# Altium footprint library SWReg.PcbLib: 15 footprints
Each footprint in its own frame and in the unit in brackets; x right, y up, seen from the top. Pads: shape width x height; smd on the part's side, far side on the other; paste and mask are expansions set on the pad; w line width, h text height; cw(c..) or ccw(c..) is an arc to the next point about the centre after c.
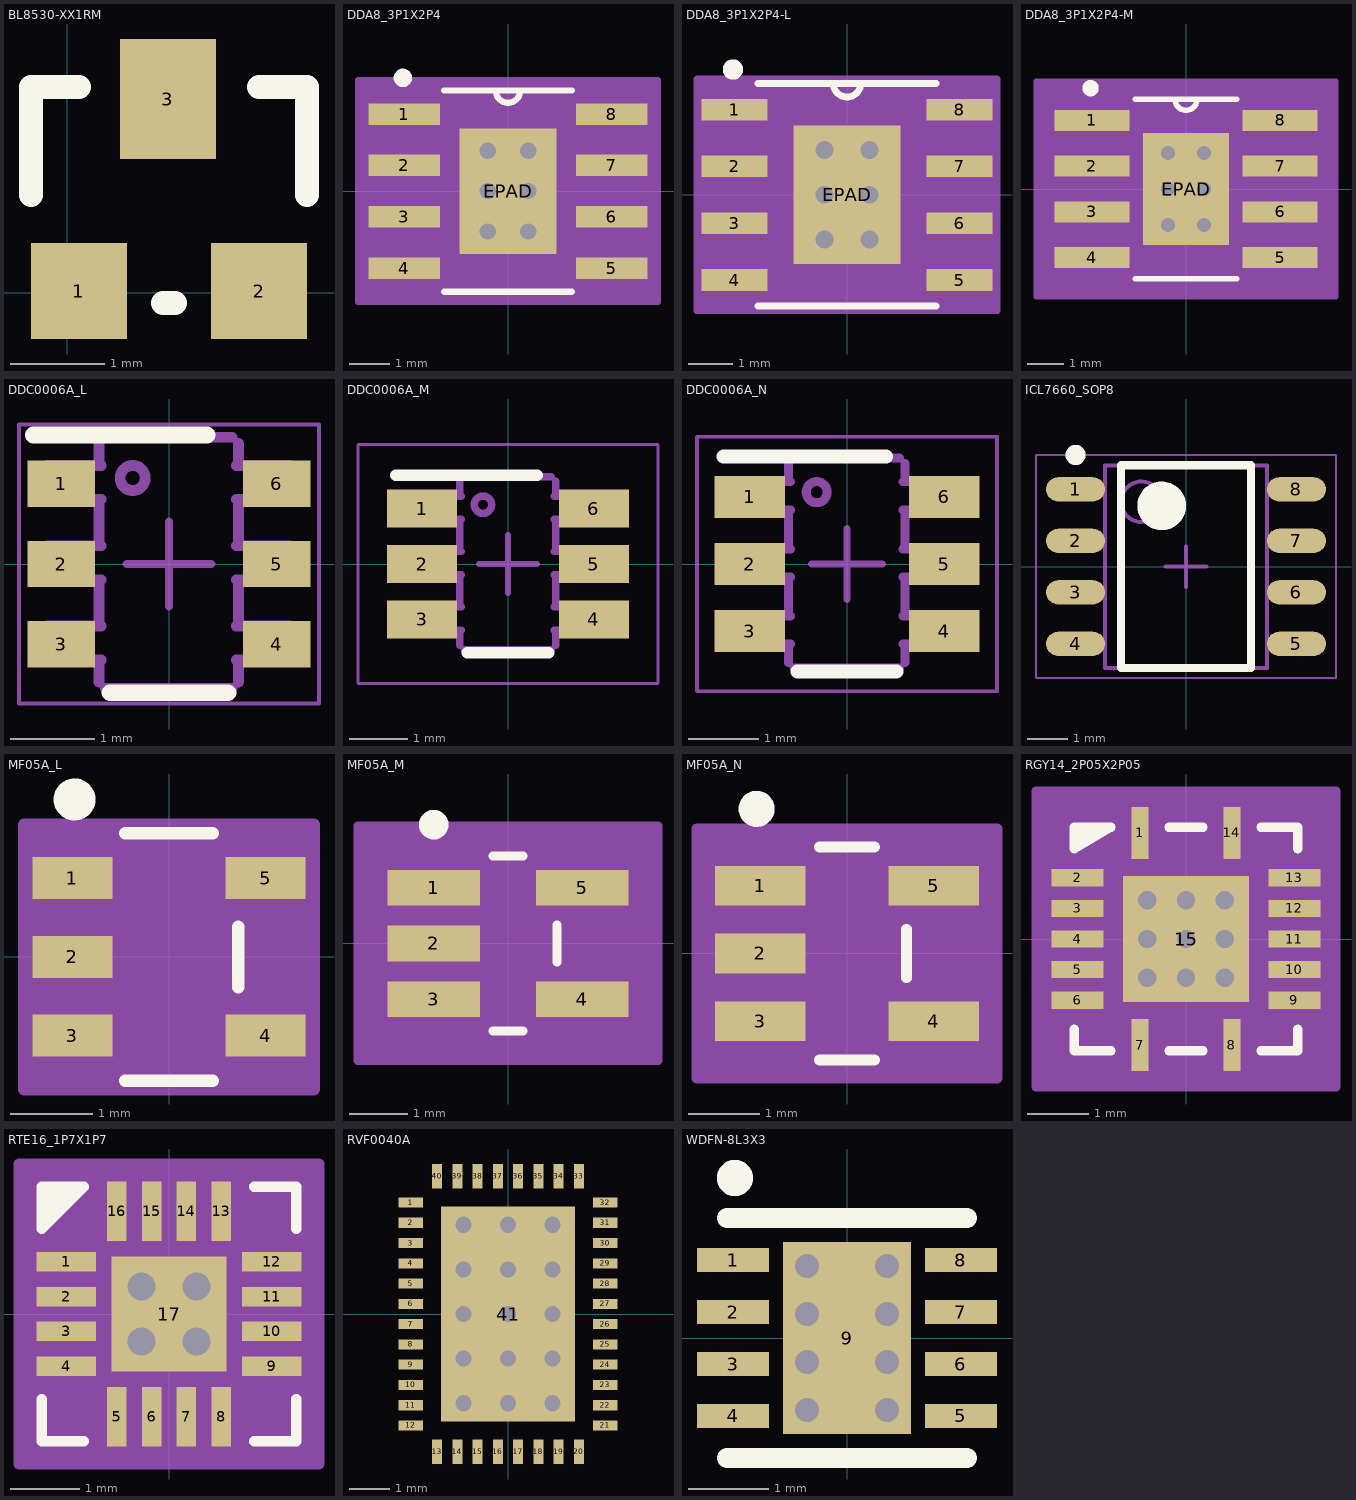
[diagram p0: the footprints below, top view; thin cyan lines are the x and y axes]

## BL8530-XX1RM [mil]
pads (3):
  rect 40x40 smd: 1(4.88,0.63) 2(79.88,0.63)
  rect 40x50 smd: 3(41.88,80.63)
Top Overlay:
  lines w10: -15.12,40.63 -15.12,85.63 4.88,85.63 ; 39.88,-4.37 44.88,-4.37 ; 79.88,85.63 99.88,85.63 99.88,40.63
3D body "SOT-23-3.STEP": height 47.24, standoff 0, extent -14.87,-11.02 99.3,99.22

## DDA8_3P1X2P4 [mil]
pads (9):
  rect 70x21 smd: 1(-101,75) 2(-101,25) 3(-101,-25) 4(-101,-75) 5(101,-75) 6(101,-25) 7(101,25) 8(101,75)
  rect 94.49x122.05 smd paste-60.52: EPAD(0,0)
via -19.68,0 diameter 31.5 hole 15.75
via -19.68,-39.37 diameter 31.5 hole 15.75
via 19.68,-39.37 diameter 31.5 hole 15.75
via 19.68,0 diameter 31.5 hole 15.75
via 19.68,39.37 diameter 31.5 hole 15.75
via -19.68,39.37 diameter 31.5 hole 15.75
Top Overlay:
  circle w10: c-102.36,110.24 r3.94
  lines w6: -62.08,-98 62.08,-98 ; -62.08,98 62.08,98 ; -12,98 ccw(c0,98) 12,98
Top Paste:
  region: 43.31,57.09 -43.31,57.09 -43.31,3.94 43.31,3.94
  region: 43.31,-3.94 -43.31,-3.94 -43.31,-57.09 43.31,-57.09
Mechanical 13:
  lines w0: -12,98 ccw(c0,98) 12,98
Mechanical 15:
  region: 146,-108 -146,-108 -146,108 146,108
  lines w6: -146,-108 -146,108 146,108 146,-108 -146,-108
3D body "DDA8_3P1X2P4.stp": height 66.1, standoff -2, extent -122,-98 122,98

## DDA8_3P1X2P4-L [mil]
pads (9):
  rect 58x19 smd: 1(-99,75) 2(-99,25) 3(-99,-25) 4(-99,-75) 5(99,-75) 6(99,-25) 7(99,25) 8(99,75)
  rect 94.49x122.05 smd paste-60.52: EPAD(0,0)
via -19.68,0 diameter 31.5 hole 15.75
via -19.68,-39.37 diameter 31.5 hole 15.75
via 19.68,-39.37 diameter 31.5 hole 15.75
via 19.68,0 diameter 31.5 hole 15.75
via 19.68,39.37 diameter 31.5 hole 15.75
via -19.68,39.37 diameter 31.5 hole 15.75
Top Overlay:
  circle w10: c-100.36,110.24 r3.94
  lines w6: -78.5,-98 78.5,-98 ; -78.5,98 78.5,98 ; -12,98 ccw(c0,98) 12,98
Top Paste:
  region: 43.31,-3.94 -43.31,-3.94 -43.31,-57.09 43.31,-57.09
  region: 43.31,57.09 -43.31,57.09 -43.31,3.94 43.31,3.94
Mechanical 13:
  lines w0: -12,98 ccw(c0,98) 12,98
Mechanical 15:
  region: 132,-102 -132,-102 -132,102 132,102
  lines w6: -132,-102 132,-102 132,102 -132,102 -132,-102
3D body "DDA8_3P1X2P4-L.stp": height 66.1, standoff -2, extent -122,-98 122,98

## DDA8_3P1X2P4-M [mil]
pads (9):
  rect 82x23 smd: 1(-103,75) 2(-103,25) 3(-103,-25) 4(-103,-75) 5(103,-75) 6(103,-25) 7(103,25) 8(103,75)
  rect 94.49x122.05 smd paste-60.52: EPAD(0,0)
via -19.68,0 diameter 31.5 hole 15.75
via -19.68,-39.37 diameter 31.5 hole 15.75
via 19.68,-39.37 diameter 31.5 hole 15.75
via 19.68,0 diameter 31.5 hole 15.75
via 19.68,39.37 diameter 31.5 hole 15.75
via -19.68,39.37 diameter 31.5 hole 15.75
Top Overlay:
  circle w10: c-104.36,110.24 r3.94
  lines w6: -55.73,-98 55.73,-98 ; -55.73,98 55.73,98 ; -12,98 ccw(c0,98) 12,98
Top Paste:
  region: 43.31,-3.94 -43.31,-3.94 -43.31,-57.09 43.31,-57.09
  region: 43.31,57.09 -43.31,57.09 -43.31,3.94 43.31,3.94
Mechanical 13:
  lines w0: -12,98 ccw(c0,98) 12,98
Mechanical 15:
  region: 164,-118 -164,-118 -164,118 164,118
  lines w6: -164,-118 164,-118 164,118 -164,118 -164,-118
3D body "DDA8_3P1X2P4-M.stp": height 66.1, standoff -2, extent -122,-98 122,98

## DDC0006A_L [mm]
pads (6):
  rect 0.8x0.55 smd paste+0 mask+0.051: 1(-1.275,0.95) 2(-1.275,0) 3(-1.275,-0.95) 4(1.275,-0.95) 5(1.275,0) 6(1.275,0.95)
Top Overlay:
  lines w0.2: -1.603,1.525 0.45,1.525 ; -0.7,-1.524 0.7,-1.524
Mechanical 13:
  lines w0.127: -0.828,-1.395 -0.828,-1.392 -0.828,-1.135 ; -0.828,-0.735 -0.828,-0.185 ; -0.828,0.215 -0.828,0.765 ; -0.828,1.165 -0.828,1.422 -0.828,1.426 ; -0.801,-1.135 -0.903,-1.135 -1.128,-1.135 -1.159,-1.135 -1.251,-1.135 -1.437,-1.135 -1.437,-0.735 -1.251,-0.735 -1.159,-0.735 -1.128,-0.735 -0.903,-0.735 -0.801,-0.735 ; -0.801,-0.185 -0.903,-0.185 -1.128,-0.185 -1.159,-0.185 -1.251,-0.185 -1.437,-0.185 -1.437,0.215 -1.251,0.215 -1.159,0.215 -1.128,0.215 -0.903,0.215 -0.801,0.215 ; -0.801,0.765 -0.903,0.765 -1.128,0.765 -1.159,0.765 -1.251,0.765 -1.437,0.765 -1.437,1.165 -1.251,1.165 -1.159,1.165 -1.128,1.165 -0.903,1.165 -0.801,1.165 ; -0.754,-1.47 -0.75,-1.47 0.743,-1.47 0.747,-1.47 ; -0.754,1.5 -0.75,1.5 0.743,1.5 0.747,1.5 ; 0.795,-1.135 0.896,-1.135 1.122,-1.135 1.152,-1.135 1.245,-1.135 1.431,-1.135 1.431,-0.735 1.245,-0.735 1.152,-0.735 1.122,-0.735 0.896,-0.735 0.795,-0.735 ; 0.795,-0.185 0.896,-0.185 1.122,-0.185 1.152,-0.185 1.245,-0.185 1.431,-0.185 1.431,0.215 1.245,0.215 1.152,0.215 1.122,0.215 0.896,0.215 0.795,0.215 ; 0.795,0.765 0.896,0.765 1.122,0.765 1.152,0.765 1.245,0.765 1.431,0.765 1.431,1.165 1.245,1.165 1.152,1.165 1.122,1.165 0.896,1.165 0.795,1.165 ; 0.822,-1.395 0.822,-1.392 0.822,-1.135 ; 0.822,-0.735 0.822,-0.185 ; 0.822,0.215 0.822,0.765 ; 0.822,1.165 0.822,1.422 0.822,1.426 ; -0.578,1.018 ccw(c-0.43,1.018) -0.281,1.018 ccw(c-0.43,1.018) -0.578,1.018
Mechanical 15:
  lines w0.05: -1.775,-1.65 1.775,-1.65 1.775,1.65 -1.775,1.65 -1.775,-1.65
  lines w0.1: -0.5,0 0.5,0 ; 0,-0.5 0,0.5
3D body "DDC0006A.stp": height 0.97, standoff 0, extent -1.4,-1.45 1.4,1.45

## DDC0006A_M [mm]
pads (6):
  rect 1.2x0.65 smd paste+0 mask+0.051: 1(-1.475,0.95) 2(-1.475,0) 3(-1.475,-0.95) 4(1.475,-0.95) 5(1.475,0) 6(1.475,0.95)
Top Overlay:
  lines w0.2: -1.925,1.525 0.5,1.525 ; -0.7,-1.524 0.7,-1.524
Mechanical 13:
  lines w0.127: -0.828,-1.395 -0.828,-1.392 -0.828,-1.135 ; -0.828,-0.735 -0.828,-0.185 ; -0.828,0.215 -0.828,0.765 ; -0.828,1.165 -0.828,1.422 -0.828,1.426 ; -0.801,-1.135 -0.903,-1.135 -1.128,-1.135 -1.159,-1.135 -1.251,-1.135 -1.437,-1.135 -1.437,-0.735 -1.251,-0.735 -1.159,-0.735 -1.128,-0.735 -0.903,-0.735 -0.801,-0.735 ; -0.801,-0.185 -0.903,-0.185 -1.128,-0.185 -1.159,-0.185 -1.251,-0.185 -1.437,-0.185 -1.437,0.215 -1.251,0.215 -1.159,0.215 -1.128,0.215 -0.903,0.215 -0.801,0.215 ; -0.801,0.765 -0.903,0.765 -1.128,0.765 -1.159,0.765 -1.251,0.765 -1.437,0.765 -1.437,1.165 -1.251,1.165 -1.159,1.165 -1.128,1.165 -0.903,1.165 -0.801,1.165 ; -0.754,-1.47 -0.75,-1.47 0.743,-1.47 0.747,-1.47 ; -0.754,1.5 -0.75,1.5 0.743,1.5 0.747,1.5 ; 0.795,-1.135 0.896,-1.135 1.122,-1.135 1.152,-1.135 1.245,-1.135 1.431,-1.135 1.431,-0.735 1.245,-0.735 1.152,-0.735 1.122,-0.735 0.896,-0.735 0.795,-0.735 ; 0.795,-0.185 0.896,-0.185 1.122,-0.185 1.152,-0.185 1.245,-0.185 1.431,-0.185 1.431,0.215 1.245,0.215 1.152,0.215 1.122,0.215 0.896,0.215 0.795,0.215 ; 0.795,0.765 0.896,0.765 1.122,0.765 1.152,0.765 1.245,0.765 1.431,0.765 1.431,1.165 1.245,1.165 1.152,1.165 1.122,1.165 0.896,1.165 0.795,1.165 ; 0.822,-1.395 0.822,-1.392 0.822,-1.135 ; 0.822,-0.735 0.822,-0.185 ; 0.822,0.215 0.822,0.765 ; 0.822,1.165 0.822,1.422 0.822,1.426 ; -0.578,1.018 cw(c-0.43,1.018) -0.281,1.018 cw(c-0.43,1.018) -0.578,1.018
Mechanical 15:
  lines w0.05: -2.575,-2.05 2.575,-2.05 2.575,2.05 -2.575,2.05 -2.575,-2.05
  lines w0.1: -0.5,0 0.5,0 ; 0,-0.5 0,0.5
3D body "DDC0006A.stp": height 0.97, standoff 0, extent -1.4,-1.45 1.4,1.45

## DDC0006A_N [mm]
pads (6):
  rect 1x0.6 smd paste+0 mask+0.051: 1(-1.375,0.95) 2(-1.375,0) 3(-1.375,-0.95) 4(1.375,-0.95) 5(1.375,0) 6(1.375,0.95)
Top Overlay:
  lines w0.2: -1.75,1.525 0.55,1.525 ; -0.7,-1.524 0.7,-1.524
Mechanical 13:
  lines w0.127: -0.828,-1.395 -0.828,-1.392 -0.828,-1.135 ; -0.828,-0.735 -0.828,-0.185 ; -0.828,0.215 -0.828,0.765 ; -0.828,1.165 -0.828,1.422 -0.828,1.426 ; -0.801,-1.135 -0.903,-1.135 -1.128,-1.135 -1.159,-1.135 -1.251,-1.135 -1.437,-1.135 -1.437,-0.735 -1.251,-0.735 -1.159,-0.735 -1.128,-0.735 -0.903,-0.735 -0.801,-0.735 ; -0.801,-0.185 -0.903,-0.185 -1.128,-0.185 -1.159,-0.185 -1.251,-0.185 -1.437,-0.185 -1.437,0.215 -1.251,0.215 -1.159,0.215 -1.128,0.215 -0.903,0.215 -0.801,0.215 ; -0.801,0.765 -0.903,0.765 -1.128,0.765 -1.159,0.765 -1.251,0.765 -1.437,0.765 -1.437,1.165 -1.251,1.165 -1.159,1.165 -1.128,1.165 -0.903,1.165 -0.801,1.165 ; -0.754,-1.47 -0.75,-1.47 0.743,-1.47 0.747,-1.47 ; -0.754,1.5 -0.75,1.5 0.743,1.5 0.747,1.5 ; 0.795,-1.135 0.896,-1.135 1.122,-1.135 1.152,-1.135 1.245,-1.135 1.431,-1.135 1.431,-0.735 1.245,-0.735 1.152,-0.735 1.122,-0.735 0.896,-0.735 0.795,-0.735 ; 0.795,-0.185 0.896,-0.185 1.122,-0.185 1.152,-0.185 1.245,-0.185 1.431,-0.185 1.431,0.215 1.245,0.215 1.152,0.215 1.122,0.215 0.896,0.215 0.795,0.215 ; 0.795,0.765 0.896,0.765 1.122,0.765 1.152,0.765 1.245,0.765 1.431,0.765 1.431,1.165 1.245,1.165 1.152,1.165 1.122,1.165 0.896,1.165 0.795,1.165 ; 0.822,-1.395 0.822,-1.392 0.822,-1.135 ; 0.822,-0.735 0.822,-0.185 ; 0.822,0.215 0.822,0.765 ; 0.822,1.165 0.822,1.422 0.822,1.426 ; -0.578,1.018 cw(c-0.43,1.018) -0.281,1.018 cw(c-0.43,1.018) -0.578,1.018
Mechanical 15:
  lines w0.05: -2.125,-1.8 2.125,-1.8 2.125,1.8 -2.125,1.8 -2.125,-1.8
  lines w0.1: -0.5,0 0.5,0 ; 0,-0.5 0,0.5
3D body "DDC0006A.stp": height 0.97, standoff 0, extent -1.4,-1.45 1.4,1.45

## ICL7660_SOP8 [mm] "SOP, 8-Leads, Body 4.90x3.90mm, Pitch 1.27mm, IPC Medium Density"
height 1.75
pads (8):
  oval 1.45x0.6 smd: 1(-2.725,1.905) 2(-2.725,0.635) 3(-2.725,-0.635) 4(-2.725,-1.905) 5(2.725,-1.905) 6(2.725,-0.635) 7(2.725,0.635) 8(2.725,1.905)
Top Overlay:
  circle w0.6: c-0.6,1.5 r0.3
  circle w0.25: c-2.725,2.755 r0.125
  lines w0.2: -1.6,-2.5 1.6,-2.5 1.6,2.5 -1.6,2.5 -1.6,-2.5
Mechanical 13:
  circle w0.1: c-1.1,1.6 r0.5
  lines w0.1: -2,-2.5 2,-2.5 2,2.5 -2,2.5 -2,-2.5
Mechanical 15:
  lines w0.05: -3.7,-2.75 3.7,-2.75 3.7,2.75 -3.7,2.75 -3.7,-2.75
  lines w0.1: -0.5,0 0.5,0 ; 0,-0.5 0,0.5
3D body "ICL7660_SOP8.step": height 1.75, standoff 0, extent -3,-2.5 3,2.5

## MF05A_L [mil]
pads (5):
  rect 38x20 smd: 1(-46,37.5) 2(-46,0) 3(-46,-37.5) 4(46,-37.5) 5(46,37.5)
Top Overlay:
  circle w10: c-45,75 r5
  lines w6: -20.73,-59 20.73,-59 ; -20.73,59 20.73,59 ; 33,-14.4 33,14.4
Mechanical 15:
  region: 69,-63 -69,-63 -69,63 69,63
  lines w6: -69,-63 69,-63 69,63 -69,63 -69,-63
3D body "MF05A-L.stp": height 48.1, standoff 0, extent -59,-59 59,59

## MF05A_M [mil]
pads (5):
  rect 62x24 smd: 1(-50,37.5) 2(-50,0) 3(-50,-37.5) 4(50,-37.5) 5(50,37.5)
Top Overlay:
  circle w10: c-50,80 r5
  lines w6: -9.98,-59 9.98,-59 ; -9.98,59 9.98,59 ; 33,-12.4 33,12.4
Mechanical 15:
  region: 101,-79 -101,-79 -101,79 101,79
  lines w6: -101,-79 -101,79 101,79 101,-79 -101,-79
3D body "MF05A-M.stp": height 48.1, standoff 0, extent -59,-59 59,59

## MF05A_N [mil]
pads (5):
  rect 50x22 smd: 1(-48,37.5) 2(-48,0) 3(-48,-37.5) 4(48,-37.5) 5(48,37.5)
Top Overlay:
  circle w10: c-50,80 r5
  lines w6: -15.17,-59 15.17,-59 ; -15.17,59 15.17,59 ; 33,-13.4 33,13.4
Mechanical 15:
  region: 83,-69 -83,-69 -83,69 83,69
  lines w6: -83,-69 83,-69 83,69 -83,69 -83,-69
3D body "MF05A.stp": height 48.1, standoff 0, extent -59,-59 59,59

## RGY14_2P05X2P05 [mm]
pads (15):
  rect 0.28x0.85 smd paste-0.412: 1(-0.75,1.731) 7(-0.75,-1.731) 8(0.75,-1.731) 14(0.75,1.731)
  rect 0.85x0.28 smd paste-0.412: 2(-1.769,1) 3(-1.769,0.5) 4(-1.769,0) 5(-1.769,-0.5) 6(-1.769,-1) 9(1.769,-1) 10(1.769,-0.5) 11(1.769,0) 12(1.769,0.5) 13(1.769,1)
  rect 2.05x2.05 smd paste-1.012 mask-1.016: 15(0,0)
via 0,0 diameter 0.6 hole 0.3
via -0.635,0.635 diameter 0.6 hole 0.3
via 0.635,0.635 diameter 0.6 hole 0.3
via -0.635,-0.635 diameter 0.6 hole 0.3
via 0,0.635 diameter 0.6 hole 0.3
via -0.635,0 diameter 0.6 hole 0.3
via 0.635,0 diameter 0.6 hole 0.3
via 0,-0.635 diameter 0.6 hole 0.3
via 0.635,-0.635 diameter 0.6 hole 0.3
Top Overlay:
  region: -1.825,1.825 -1.825,1.473 -1.223,1.825
  lines w0.152: -1.825,-1.473 -1.825,-1.825 -1.223,-1.825 ; -0.277,-1.825 0.277,-1.825 ; -0.277,1.825 0.277,1.825 ; 1.223,-1.825 1.825,-1.825 1.825,-1.473 ; 1.223,1.825 1.825,1.825 1.825,1.473 ; -1.825,1.473 -1.825,1.825 -1.223,1.825 -1.825,1.473
Top Paste:
  drawing of 27 lines, arcs and shapes, not listed
Top Solder:
  region: -1.274,1.21 -2.264,1.21 -2.264,0.79 -1.274,0.79
  region: -1.274,0.71 -2.264,0.71 -2.264,0.29 -1.274,0.29
  region: -1.274,0.21 -2.264,0.21 -2.264,-0.21 -1.274,-0.21
  region: -1.274,-0.29 -2.264,-0.29 -2.264,-0.71 -1.274,-0.71
  region: -1.274,-0.79 -2.264,-0.79 -2.264,-1.21 -1.274,-1.21
  region: -0.54,-1.236 -0.96,-1.236 -0.96,-2.226 -0.54,-2.226
  region: 0.96,-1.236 0.54,-1.236 0.54,-2.226 0.96,-2.226
  region: 2.264,-0.79 1.274,-0.79 1.274,-1.21 2.264,-1.21
  region: 2.264,-0.29 1.274,-0.29 1.274,-0.71 2.264,-0.71
  region: 2.264,0.21 1.274,0.21 1.274,-0.21 2.264,-0.21
  region: 2.264,0.71 1.274,0.71 1.274,0.29 2.264,0.29
  region: 2.264,1.21 1.274,1.21 1.274,0.79 2.264,0.79
  region: 0.96,2.226 0.54,2.226 0.54,1.236 0.96,1.236
  region: -0.54,2.226 -0.96,2.226 -0.96,1.236 -0.54,1.236
  region: 0,1.025
  region: 0,-1.025
  region: -1.088,0.594 -1.088,1.088 1.088,1.088 1.088,0.594
  region: -1.088,-0.194 -1.088,0.194 1.088,0.194 1.088,-0.194
  region: -1.088,-1.088 -1.088,-0.594 1.088,-0.594 1.088,-1.088
  region: -1.088,-1.088 -1.088,1.088 -0.594,1.088 -0.594,-1.088
  region: 0.194,-1.088 0.194,1.088 -0.194,1.088 -0.194,-1.088
  region: 0.594,-1.088 0.594,1.088 1.088,1.088 1.088,-1.088
Mechanical 15:
  region: 2.448,-2.41 -2.448,-2.41 -2.448,2.41 2.448,2.41
  lines w0.152: -2.448,-2.41 -2.448,2.41 2.448,2.41 2.448,-2.41 -2.448,-2.41
3D body "RGY14_2P05X2P05.stp": height 1, standoff -0.05, extent -1.876,-1.876 1.876,1.876

## RTE16_1P7X1P7 [mm]
pads (17):
  rect 0.85x0.28 smd paste-0.14: 1(-1.475,0.75) 2(-1.475,0.25) 3(-1.475,-0.25) 4(-1.475,-0.75) 9(1.475,-0.75) 10(1.475,-0.25) 11(1.475,0.25) 12(1.475,0.75)
  rect 0.28x0.85 smd paste-0.14: 5(-0.75,-1.475) 6(-0.25,-1.475) 7(0.25,-1.475) 8(0.75,-1.475) 13(0.75,1.475) 14(0.25,1.475) 15(-0.25,1.475) 16(-0.75,1.475)
  rect 1.65x1.65 smd paste-0.889 mask-0.889: 17(0,0)
via 0.394,-0.394 diameter 0.8 hole 0.4
via -0.394,-0.394 diameter 0.8 hole 0.4
via 0.394,0.394 diameter 0.8 hole 0.4
via -0.394,0.394 diameter 0.8 hole 0.4
Top Overlay:
  region: -1.829,1.829 -1.829,1.223 -1.223,1.829
  lines w0.152: -1.829,-1.223 -1.829,-1.829 -1.223,-1.829 ; 1.223,-1.829 1.829,-1.829 1.829,-1.223 ; 1.223,1.829 1.829,1.829 1.829,1.223 ; -1.829,1.223 -1.223,1.829 -1.829,1.829 -1.829,1.223
Top Paste:
  region: 0.827,-0.494 0.635,-0.494 0.494,-0.635 0.494,-0.827 0.827,-0.827
  region: 0.827,0.294 0.635,0.294 0.494,0.152 0.494,-0.152 0.635,-0.294 0.827,-0.294
  region: 0.827,0.827 0.494,0.827 0.494,0.635 0.635,0.494 0.827,0.494
  region: 0.152,-0.494 -0.152,-0.494 -0.294,-0.635 -0.294,-0.827 0.294,-0.827 0.294,-0.635
  region: 0.152,0.294 -0.152,0.294 -0.294,0.152 -0.294,-0.152 -0.152,-0.294 0.152,-0.294 0.294,-0.152 0.294,0.152
  region: 0.294,0.827 -0.294,0.827 -0.294,0.635 -0.152,0.494 0.152,0.494 0.294,0.635
  region: -0.635,-0.494 -0.827,-0.494 -0.827,-0.827 -0.494,-0.827 -0.494,-0.635
  region: -0.635,0.294 -0.827,0.294 -0.827,-0.294 -0.635,-0.294 -0.494,-0.152 -0.494,0.152
  region: -0.494,0.827 -0.827,0.827 -0.827,0.494 -0.635,0.494 -0.494,0.635
  region: -0.635,1.875 -0.865,1.875 -0.865,1.075 -0.635,1.075
  region: -0.135,1.875 -0.365,1.875 -0.365,1.075 -0.135,1.075
  region: 0.365,1.875 0.135,1.875 0.135,1.075 0.365,1.075
  region: 0.865,1.875 0.635,1.875 0.635,1.075 0.865,1.075
  region: 1.875,0.865 1.075,0.865 1.075,0.635 1.875,0.635
  region: 1.875,0.365 1.075,0.365 1.075,0.135 1.875,0.135
  region: 1.875,-0.135 1.075,-0.135 1.075,-0.365 1.875,-0.365
  region: 1.875,-0.635 1.075,-0.635 1.075,-0.865 1.875,-0.865
  region: 0.865,-1.075 0.635,-1.075 0.635,-1.875 0.865,-1.875
  region: 0.365,-1.075 0.135,-1.075 0.135,-1.875 0.365,-1.875
  region: -0.135,-1.075 -0.365,-1.075 -0.365,-1.875 -0.135,-1.875
  region: -0.635,-1.075 -0.865,-1.075 -0.865,-1.875 -0.635,-1.875
  region: -1.075,-0.635 -1.875,-0.635 -1.875,-0.865 -1.075,-0.865
  region: -1.075,-0.135 -1.875,-0.135 -1.875,-0.365 -1.075,-0.365
  region: -1.075,0.365 -1.875,0.365 -1.875,0.135 -1.075,0.135
  region: -1.075,0.865 -1.875,0.865 -1.875,0.635 -1.075,0.635
Top Solder:
  region: 0.594,-0.965 0.594,0.965 0.965,0.965 0.965,-0.965
  region: 0.194,-0.965 0.194,0.965 -0.194,0.965 -0.194,-0.965
  region: -0.965,-0.965 -0.965,0.965 -0.594,0.965 -0.594,-0.965
  region: -0.965,-0.965 -0.965,-0.594 0.965,-0.594 0.965,-0.965
  region: -0.965,-0.194 -0.965,0.194 0.965,0.194 0.965,-0.194
  region: -0.965,0.594 -0.965,0.965 0.965,0.965 0.965,0.594
  region: -0.54,1.97 -0.96,1.97 -0.96,0.98 -0.54,0.98
  region: -0.04,1.97 -0.46,1.97 -0.46,0.98 -0.04,0.98
  region: 0.46,1.97 0.04,1.97 0.04,0.98 0.46,0.98
  region: 0.96,1.97 0.54,1.97 0.54,0.98 0.96,0.98
  region: 1.97,0.96 0.98,0.96 0.98,0.54 1.97,0.54
  region: 1.97,0.46 0.98,0.46 0.98,0.04 1.97,0.04
  region: 1.97,-0.04 0.98,-0.04 0.98,-0.46 1.97,-0.46
  region: 1.97,-0.54 0.98,-0.54 0.98,-0.96 1.97,-0.96
  region: 0.96,-0.98 0.54,-0.98 0.54,-1.97 0.96,-1.97
  region: 0.46,-0.98 0.04,-0.98 0.04,-1.97 0.46,-1.97
  region: -0.04,-0.98 -0.46,-0.98 -0.46,-1.97 -0.04,-1.97
  region: -0.54,-0.98 -0.96,-0.98 -0.96,-1.97 -0.54,-1.97
  region: -0.98,-0.54 -1.97,-0.54 -1.97,-0.96 -0.98,-0.96
  region: -0.98,-0.04 -1.97,-0.04 -1.97,-0.46 -0.98,-0.46
  region: -0.98,0.46 -1.97,0.46 -1.97,0.04 -0.98,0.04
  region: -0.98,0.96 -1.97,0.96 -1.97,0.54 -0.98,0.54
Mechanical 15:
  region: 2.154,-2.154 -2.154,-2.154 -2.154,2.154 2.154,2.154
  lines w0.152: -2.154,-2.154 2.154,-2.154 2.154,2.154 -2.154,2.154 -2.154,-2.154
3D body "RTE16_1P7X1P7.stp": height 0.74, standoff 0, extent -1.626,-1.626 1.626,1.626

## RVF0040A [mm]
height 1.42
pads (41):
  rect 0.6x0.25 smd: 1(-2.4,2.75) 2(-2.4,2.25) 3(-2.4,1.75) 4(-2.4,1.25) 5(-2.4,0.75) 6(-2.4,0.25) 7(-2.4,-0.25) 8(-2.4,-0.75) 9(-2.4,-1.25) 10(-2.4,-1.75) 11(-2.4,-2.25) 12(-2.4,-2.75) 21(2.4,-2.75) 22(2.4,-2.25) 23(2.4,-1.75) 24(2.4,-1.25) 25(2.4,-0.75) 26(2.4,-0.25) 27(2.4,0.25) 28(2.4,0.75) 29(2.4,1.25) 30(2.4,1.75) 31(2.4,2.25) 32(2.4,2.75)
  rect 0.25x0.6 smd: 13(-1.75,-3.4) 14(-1.25,-3.4) 15(-0.75,-3.4) 16(-0.25,-3.4) 17(0.25,-3.4) 18(0.75,-3.4) 19(1.25,-3.4) 20(1.75,-3.4) 33(1.75,3.4) 34(1.25,3.4) 35(0.75,3.4) 36(0.25,3.4) 37(-0.25,3.4) 38(-0.75,3.4) 39(-1.25,3.4) 40(-1.75,3.4)
  rect 3.3x5.3 smd: 41(0,0)
via 0,0 diameter 0.8 hole 0.4
via -1.1,0 diameter 0.8 hole 0.4
via 0,1.1 diameter 0.8 hole 0.4
via -1.1,1.1 diameter 0.8 hole 0.4
via -1.1,2.2 diameter 0.8 hole 0.4
via 0,2.2 diameter 0.8 hole 0.4
via -1.1,-1.1 diameter 0.8 hole 0.4
via 0,-1.1 diameter 0.8 hole 0.4
via -1.1,-2.2 diameter 0.8 hole 0.4
via 0,-2.2 diameter 0.8 hole 0.4
via 1.1,-2.2 diameter 0.8 hole 0.4
via 1.1,-1.1 diameter 0.8 hole 0.4
via 1.1,2.2 diameter 0.8 hole 0.4
via 1.1,1.1 diameter 0.8 hole 0.4
via 1.1,0 diameter 0.8 hole 0.4
3D body "RVF0040A.stp": height 1.52, standoff 0, extent -2.5,-3.5 2.5,3.5

## WDFN-8L3X3 [mm]
height 0.8
pads (9):
  rect 0.9x0.3 smd: 1(-1.425,0.975) 2(-1.425,0.325) 3(-1.425,-0.325) 4(-1.425,-0.975) 5(1.425,-0.975) 6(1.425,-0.325) 7(1.425,0.325) 8(1.425,0.975)
  rect 1.6x2.4 smd: 9(0,0)
via -0.5,-0.9 diameter 0.6 hole 0.3
via -0.5,-0.3 diameter 0.6 hole 0.3
via 0.5,-0.9 diameter 0.6 hole 0.3
via 0.5,-0.3 diameter 0.6 hole 0.3
via 0.5,0.3 diameter 0.6 hole 0.3
via -0.5,0.3 diameter 0.6 hole 0.3
via 0.5,0.9 diameter 0.6 hole 0.3
via -0.5,0.9 diameter 0.6 hole 0.3
Top Overlay:
  circle w0.254: c-1.4,2 r0.1
  lines w0.254: -1.5,-1.5 1.5,-1.5 ; -1.5,1.5 1.5,1.5
3D body: height 0.8, standoff 0, extent -1.5,-1.5 1.5,1.5